# EAGLE library part KXN_HEADER_1X12 (library kxnStandard_connector)
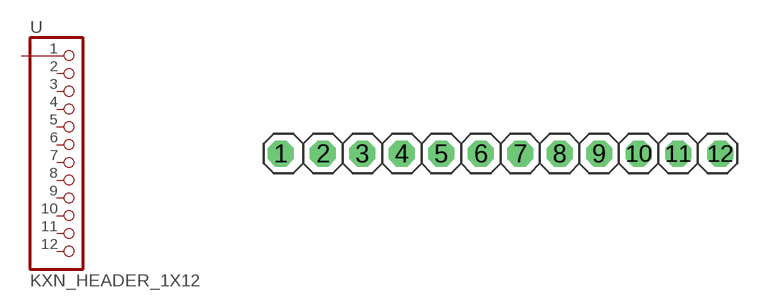
[diagram p12: symbol with the pads of HEADER_1X12_254_LOCK; footprint HEADER_1X12_254_LOCK]

Designator prefix -

## KXN_HEADER_1X12_LOCK_2_SIDE (CC_SHOP: CongCo)  [HEADER_1X12_254_LOCK]
1  1  pas
2  2  pas
3  3  pas
4  4  pas
5  5  pas
6  6  pas
7  7  pas
8  8  pas
9  9  pas
10  10  pas
11  11  pas
12  12  pas

## Footprint HEADER_1X12_254_LOCK (pad centres in mm)
drill 0.9 pad 1.676 octagon: 1 -14.15,0
drill 0.95 pad 1.676 octagon: 2 -11.43,0; 3 -8.89,0; 4 -6.35,0; 5 -3.81,0; 6 -1.27,0; 7 1.27,0; 8 3.81,0; 9 6.35,0; 10 8.89,0; 11 11.43,0; 12 14.15,0